# EAGLE library part ACS711 (library CurrentSensor)
The Allegro™ ACS711 provides economical and precise solutions for AC or DC current sensing in <100 V audio, communications systems, and white goods. The device package allows for easy implementation by the customer. Typical applications include circuit protection, current monitoring, and motor and inverter control. The device consists of a linear Hall sensor circuit with a copper conduction path located near the surface of the die. Applied current flowing through this copper conduction path generates a magnetic field which is sensed by the integrated Hall IC and converted into a proportional voltage. Device accuracy is optimized through the close proximity of the magnetic signal to the Hall transducer. The output of the device has a positive slope proportional to the current flow from IP+ to IP– (pins 1 and 2, to pins 3 and 4). The internal resistance of this conductive path is 0.6 mΩ for the EX package, and 1.2 mΩ for the LC package, providing a non-intrusive measurement interface that saves power in applications that require energy efficiency. The ACS711 is optimized for low-side current sensing applications, although the terminals of the conductive path are electrically isolated from the sensor IC leads, providing sufficient internal creepage and clearance dimensions for a low AC or DC working voltage applications. The thickness of the copper conductor allows survival of the device at up to 5× overcurrent conditions. The ACS711 is provided in small, surface mount packages: SOIC8 and QFN12. The leadframe is plated with 100% matte tin, which is compatible with standard lead (Pb) free printed circuit board assembly processes. Internally, the device is Pb-free, except for flip-chip high-temperature Pb‑based solder balls, currently exempt from RoHS. The device is fully calibrated prior to shipment from the factory.
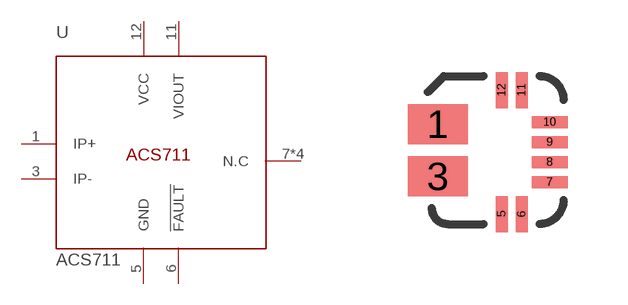
[diagram p0: symbol with the pads of QFN-12*(ACS711); footprint QFN-12*(ACS711)]

Designator prefix U

## ACS711EX  [QFN-12*(ACS711)]
1  IP+  out
3  IP-  in
5  GND  pwr
6  !FAULT!
7  N.C  nc
8  N.C  nc
9  N.C  nc
10  N.C  nc
11  VIOUT  out
12  VCC  pwr

## Footprint QFN-12*(ACS711) (pad centres in mm)
smd 1.5 x 1: 1 -1.35,0.7; 3 -1.35,-0.6
smd 0.3 x 0.9: 5 0.25,-1.55; 6 0.75,-1.55; 11 0.75,1.55; 12 0.25,1.55
smd 0.9 x 0.3: 7 1.45,-0.75; 8 1.45,-0.25; 9 1.45,0.25; 10 1.45,0.75